# Altium footprint library Xilinx.PcbLib: 3 footprints (part 1 of 3)
Each footprint in its own frame and in the unit in brackets; x right, y up, seen from the top. Pads: shape width x height; smd on the part's side, far side on the other; paste and mask are expansions set on the pad; w line width, h text height; cw(c..) or ccw(c..) is an arc to the next point about the centre after c.
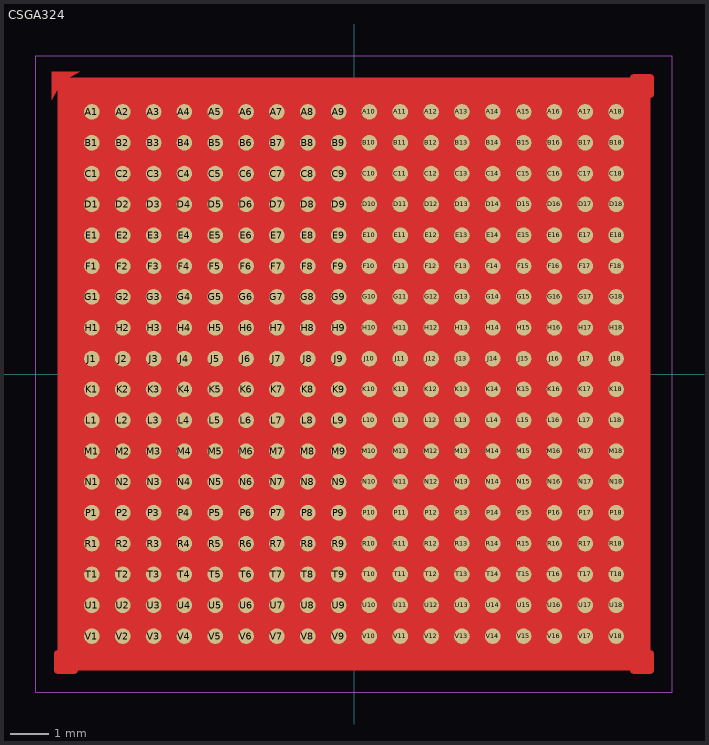
[diagram p0: the footprint, top view; thin cyan lines are the x and y axes]

## CSGA324 [mm]
pads (324):
  round 0.406 smd mask+0.038: A1(-6.8,6.8) A2(-6,6.8) A3(-5.2,6.8) A4(-4.4,6.8) A5(-3.6,6.8) A6(-2.8,6.8) A7(-2,6.8) A8(-1.2,6.8) A9(-0.4,6.8) A10(0.4,6.8) A11(1.2,6.8) A12(2,6.8) A13(2.8,6.8) A14(3.6,6.8) A15(4.4,6.8) A16(5.2,6.8) A17(6,6.8) A18(6.8,6.8) B1(-6.8,6) B2(-6,6) B3(-5.2,6) B4(-4.4,6) B5(-3.6,6) B6(-2.8,6) B7(-2,6) B8(-1.2,6) B9(-0.4,6) B10(0.4,6) B11(1.2,6) B12(2,6) B13(2.8,6) B14(3.6,6) B15(4.4,6) B16(5.2,6) B17(6,6) B18(6.8,6) C1(-6.8,5.2) C2(-6,5.2) C3(-5.2,5.2) C4(-4.4,5.2) C5(-3.6,5.2) C6(-2.8,5.2) C7(-2,5.2) C8(-1.2,5.2) C9(-0.4,5.2) C10(0.4,5.2) C11(1.2,5.2) C12(2,5.2) C13(2.8,5.2) C14(3.6,5.2) C15(4.4,5.2) C16(5.2,5.2) C17(6,5.2) C18(6.8,5.2) D1(-6.8,4.4) D2(-6,4.4) D3(-5.2,4.4) D4(-4.4,4.4) D5(-3.6,4.4) D6(-2.8,4.4) D7(-2,4.4) D8(-1.2,4.4) D9(-0.4,4.4) D10(0.4,4.4) D11(1.2,4.4) D12(2,4.4) D13(2.8,4.4) D14(3.6,4.4) D15(4.4,4.4) D16(5.2,4.4) D17(6,4.4) D18(6.8,4.4) E1(-6.8,3.6) E2(-6,3.6) E3(-5.2,3.6) E4(-4.4,3.6) E5(-3.6,3.6) E6(-2.8,3.6) E7(-2,3.6) E8(-1.2,3.6) E9(-0.4,3.6) E10(0.4,3.6) E11(1.2,3.6) E12(2,3.6) E13(2.8,3.6) E14(3.6,3.6) E15(4.4,3.6) E16(5.2,3.6) E17(6,3.6) E18(6.8,3.6) F1(-6.8,2.8) F2(-6,2.8) F3(-5.2,2.8) F4(-4.4,2.8) F5(-3.6,2.8) F6(-2.8,2.8) F7(-2,2.8) F8(-1.2,2.8) F9(-0.4,2.8) F10(0.4,2.8) F11(1.2,2.8) F12(2,2.8) F13(2.8,2.8) F14(3.6,2.8) F15(4.4,2.8) F16(5.2,2.8) F17(6,2.8) F18(6.8,2.8) G1(-6.8,2) G2(-6,2) G3(-5.2,2) G4(-4.4,2) G5(-3.6,2) G6(-2.8,2) G7(-2,2) G8(-1.2,2) G9(-0.4,2) G10(0.4,2) G11(1.2,2) G12(2,2) G13(2.8,2) G14(3.6,2) G15(4.4,2) G16(5.2,2) G17(6,2) G18(6.8,2) H1(-6.8,1.2) H2(-6,1.2) H3(-5.2,1.2) H4(-4.4,1.2) H5(-3.6,1.2) H6(-2.8,1.2) H7(-2,1.2) H8(-1.2,1.2) H9(-0.4,1.2) H10(0.4,1.2) H11(1.2,1.2) H12(2,1.2) H13(2.8,1.2) H14(3.6,1.2) H15(4.4,1.2) H16(5.2,1.2) H17(6,1.2) H18(6.8,1.2) J1(-6.8,0.4) J2(-6,0.4) J3(-5.2,0.4) J4(-4.4,0.4) J5(-3.6,0.4) J6(-2.8,0.4) J7(-2,0.4) J8(-1.2,0.4) J9(-0.4,0.4) J10(0.4,0.4) J11(1.2,0.4) J12(2,0.4) J13(2.8,0.4) J14(3.6,0.4) J15(4.4,0.4) J16(5.2,0.4) J17(6,0.4) J18(6.8,0.4) K1(-6.8,-0.4) K2(-6,-0.4) K3(-5.2,-0.4) K4(-4.4,-0.4) K5(-3.6,-0.4) K6(-2.8,-0.4) K7(-2,-0.4) K8(-1.2,-0.4) K9(-0.4,-0.4) K10(0.4,-0.4) K11(1.2,-0.4) K12(2,-0.4) K13(2.8,-0.4) K14(3.6,-0.4) K15(4.4,-0.4) K16(5.2,-0.4) K17(6,-0.4) K18(6.8,-0.4) L1(-6.8,-1.2) L2(-6,-1.2) L3(-5.2,-1.2) L4(-4.4,-1.2) L5(-3.6,-1.2) L6(-2.8,-1.2) L7(-2,-1.2) L8(-1.2,-1.2) L9(-0.4,-1.2) L10(0.4,-1.2) L11(1.2,-1.2) L12(2,-1.2) L13(2.8,-1.2) L14(3.6,-1.2) L15(4.4,-1.2) L16(5.2,-1.2) L17(6,-1.2) L18(6.8,-1.2) M1(-6.8,-2) M2(-6,-2) M3(-5.2,-2) M4(-4.4,-2) M5(-3.6,-2) M6(-2.8,-2) M7(-2,-2) M8(-1.2,-2) M9(-0.4,-2) M10(0.4,-2) M11(1.2,-2) M12(2,-2) M13(2.8,-2) M14(3.6,-2) M15(4.4,-2) M16(5.2,-2) M17(6,-2) M18(6.8,-2) N1(-6.8,-2.8) N2(-6,-2.8) N3(-5.2,-2.8) N4(-4.4,-2.8) N5(-3.6,-2.8) N6(-2.8,-2.8) N7(-2,-2.8) N8(-1.2,-2.8) N9(-0.4,-2.8) N10(0.4,-2.8) N11(1.2,-2.8) N12(2,-2.8) N13(2.8,-2.8) N14(3.6,-2.8) N15(4.4,-2.8) N16(5.2,-2.8) N17(6,-2.8) N18(6.8,-2.8) P1(-6.8,-3.6) P2(-6,-3.6) P3(-5.2,-3.6) P4(-4.4,-3.6) P5(-3.6,-3.6) P6(-2.8,-3.6) P7(-2,-3.6) P8(-1.2,-3.6) P9(-0.4,-3.6) P10(0.4,-3.6) P11(1.2,-3.6) P12(2,-3.6) P13(2.8,-3.6) P14(3.6,-3.6) P15(4.4,-3.6) P16(5.2,-3.6) P17(6,-3.6) P18(6.8,-3.6) R1(-6.8,-4.4) R2(-6,-4.4) R3(-5.2,-4.4) R4(-4.4,-4.4) R5(-3.6,-4.4) R6(-2.8,-4.4) R7(-2,-4.4) R8(-1.2,-4.4) R9(-0.4,-4.4) R10(0.4,-4.4) R11(1.2,-4.4) R12(2,-4.4) R13(2.8,-4.4) R14(3.6,-4.4) R15(4.4,-4.4) R16(5.2,-4.4) R17(6,-4.4) R18(6.8,-4.4) T1(-6.8,-5.2) T2(-6,-5.2) T3(-5.2,-5.2) T4(-4.4,-5.2) T5(-3.6,-5.2) T6(-2.8,-5.2) T7(-2,-5.2) T8(-1.2,-5.2) T9(-0.4,-5.2) T10(0.4,-5.2) T11(1.2,-5.2) T12(2,-5.2) T13(2.8,-5.2) T14(3.6,-5.2) T15(4.4,-5.2) T16(5.2,-5.2) T17(6,-5.2) T18(6.8,-5.2) U1(-6.8,-6) U2(-6,-6) U3(-5.2,-6) U4(-4.4,-6) U5(-3.6,-6) U6(-2.8,-6) U7(-2,-6) U8(-1.2,-6) U9(-0.4,-6) U10(0.4,-6) U11(1.2,-6) U12(2,-6) U13(2.8,-6) U14(3.6,-6) U15(4.4,-6) U16(5.2,-6) U17(6,-6) U18(6.8,-6) V1(-6.8,-6.8) V2(-6,-6.8) V3(-5.2,-6.8) V4(-4.4,-6.8) V5(-3.6,-6.8) V6(-2.8,-6.8) V7(-2,-6.8) V8(-1.2,-6.8) V9(-0.4,-6.8) V10(0.4,-6.8) V11(1.2,-6.8) V12(2,-6.8) V13(2.8,-6.8) V14(3.6,-6.8) V15(4.4,-6.8) V16(5.2,-6.8) V17(6,-6.8) V18(6.8,-6.8)
Top Layer:
  region: -7.842,7.842 -7.842,7.117 -7.576,7.576 -7.117,7.842
  pour cut-out: 7.684,-7.684 7.684,7.684 -7.684,7.684 -7.684,-7.684
  region: 7.575,7.27 7.575,7.25 7.59,7.212 7.619,7.184 7.656,7.168 7.676,7.168 7.697,7.168 7.734,7.184 7.763,7.212 7.778,7.25 7.778,7.27 7.778,7.676 7.778,7.697 7.763,7.734 7.734,7.763 7.697,7.778 7.676,7.778 7.27,7.778 7.25,7.778 7.212,7.763 7.184,7.734 7.168,7.697 7.168,7.676 7.168,7.656 7.184,7.619 7.212,7.59 7.25,7.575 7.27,7.575 7.524,7.575 7.534,7.574 7.552,7.566 7.566,7.552 7.574,7.534 7.575,7.524
  region: 7.27,-7.575 7.25,-7.575 7.212,-7.59 7.184,-7.619 7.168,-7.656 7.168,-7.676 7.168,-7.697 7.184,-7.734 7.212,-7.763 7.25,-7.778 7.27,-7.778 7.676,-7.778 7.697,-7.778 7.734,-7.763 7.763,-7.734 7.778,-7.697 7.778,-7.676 7.778,-7.27 7.778,-7.25 7.763,-7.212 7.734,-7.184 7.697,-7.168 7.676,-7.168 7.656,-7.168 7.619,-7.184 7.59,-7.212 7.575,-7.25 7.575,-7.27 7.575,-7.524 7.574,-7.534 7.566,-7.552 7.552,-7.566 7.534,-7.574 7.524,-7.575
  region: -7.575,-7.27 -7.575,-7.25 -7.59,-7.212 -7.619,-7.184 -7.656,-7.168 -7.676,-7.168 -7.697,-7.168 -7.734,-7.184 -7.763,-7.212 -7.778,-7.25 -7.778,-7.27 -7.778,-7.676 -7.778,-7.697 -7.763,-7.734 -7.734,-7.763 -7.697,-7.778 -7.676,-7.778 -7.27,-7.778 -7.25,-7.778 -7.212,-7.763 -7.184,-7.734 -7.168,-7.697 -7.168,-7.676 -7.168,-7.656 -7.184,-7.619 -7.212,-7.59 -7.25,-7.575 -7.27,-7.575 -7.524,-7.575 -7.534,-7.574 -7.552,-7.566 -7.566,-7.552 -7.574,-7.534 -7.575,-7.524
Top Courtyard:
  lines w0.025: -8.255,-8.255 -8.255,8.255 8.255,8.255 8.255,-8.255 -8.255,-8.255
Top Component Outline:
  lines w0.025: -7.5,-7.5 7.5,-7.5 7.5,7.5 -7.5,7.5 -7.5,-7.5
3D body: height 1.36, standoff 0.35, extent -7.5,-7.5 7.5,7.5
3D body: height 0.43, standoff -0.07, extent -7.049,-5.447 -6.551,-4.95
3D body: height 0.43, standoff -0.07, extent -6.249,-5.447 -5.751,-4.95
3D body: height 0.43, standoff -0.07, extent -5.449,-5.447 -4.951,-4.95
3D body: height 0.43, standoff -0.07, extent -5.449,-6.247 -4.951,-5.75
3D body: height 0.43, standoff -0.07, extent -6.249,-6.247 -5.751,-5.75
3D body: height 0.43, standoff -0.07, extent -7.049,-6.247 -6.551,-5.75
3D body: height 0.43, standoff -0.07, extent -7.049,-7.047 -6.551,-6.55
3D body: height 0.43, standoff -0.07, extent -6.249,-7.047 -5.751,-6.55
3D body: height 0.43, standoff -0.07, extent -5.449,-7.047 -4.951,-6.55
3D body: height 0.43, standoff -0.07, extent -3.049,-7.047 -2.551,-6.55
3D body: height 0.43, standoff -0.07, extent -3.849,-7.047 -3.351,-6.55
3D body: height 0.43, standoff -0.07, extent -4.649,-7.047 -4.151,-6.55
3D body: height 0.43, standoff -0.07, extent -4.649,-6.247 -4.151,-5.75
3D body: height 0.43, standoff -0.07, extent -3.849,-6.247 -3.351,-5.75
3D body: height 0.43, standoff -0.07, extent -3.049,-6.247 -2.551,-5.75
3D body: height 0.43, standoff -0.07, extent -3.049,-5.447 -2.551,-4.95
3D body: height 0.43, standoff -0.07, extent -3.849,-5.447 -3.351,-4.95
3D body: height 0.43, standoff -0.07, extent -4.649,-5.447 -4.151,-4.95
3D body: height 0.43, standoff -0.07, extent -0.649,-7.047 -0.151,-6.55
3D body: height 0.43, standoff -0.07, extent -1.449,-7.047 -0.951,-6.55
3D body: height 0.43, standoff -0.07, extent -2.249,-7.047 -1.751,-6.55
3D body: height 0.43, standoff -0.07, extent -2.249,-6.247 -1.751,-5.75
3D body: height 0.43, standoff -0.07, extent -1.449,-6.247 -0.951,-5.75
3D body: height 0.43, standoff -0.07, extent -0.649,-6.247 -0.151,-5.75
3D body: height 0.43, standoff -0.07, extent -0.649,-5.447 -0.151,-4.95
3D body: height 0.43, standoff -0.07, extent -1.449,-5.447 -0.951,-4.95
3D body: height 0.43, standoff -0.07, extent -2.249,-5.447 -1.751,-4.95
3D body: height 0.43, standoff -0.07, extent 1.751,-7.047 2.249,-6.55
3D body: height 0.43, standoff -0.07, extent 0.951,-7.047 1.449,-6.55
3D body: height 0.43, standoff -0.07, extent 0.151,-7.047 0.649,-6.55
3D body: height 0.43, standoff -0.07, extent 0.151,-6.247 0.649,-5.75
3D body: height 0.43, standoff -0.07, extent 0.951,-6.247 1.449,-5.75
3D body: height 0.43, standoff -0.07, extent 1.751,-6.247 2.249,-5.75
3D body: height 0.43, standoff -0.07, extent 1.751,-5.447 2.249,-4.95
3D body: height 0.43, standoff -0.07, extent 0.951,-5.447 1.449,-4.95
3D body: height 0.43, standoff -0.07, extent 0.151,-5.447 0.649,-4.95
3D body: height 0.43, standoff -0.07, extent 4.151,-7.047 4.649,-6.55
3D body: height 0.43, standoff -0.07, extent 3.351,-7.047 3.849,-6.55
3D body: height 0.43, standoff -0.07, extent 2.551,-7.047 3.049,-6.55
3D body: height 0.43, standoff -0.07, extent 2.551,-6.247 3.049,-5.75
3D body: height 0.43, standoff -0.07, extent 3.351,-6.247 3.849,-5.75
3D body: height 0.43, standoff -0.07, extent 4.151,-6.247 4.649,-5.75
3D body: height 0.43, standoff -0.07, extent 4.151,-5.447 4.649,-4.95
3D body: height 0.43, standoff -0.07, extent 3.351,-5.447 3.849,-4.95
3D body: height 0.43, standoff -0.07, extent 2.551,-5.447 3.049,-4.95
3D body: height 0.43, standoff -0.07, extent 6.551,-7.047 7.049,-6.55
3D body: height 0.43, standoff -0.07, extent 5.751,-7.047 6.249,-6.55
3D body: height 0.43, standoff -0.07, extent 4.951,-7.047 5.449,-6.55
3D body: height 0.43, standoff -0.07, extent 4.951,-6.247 5.449,-5.75
3D body: height 0.43, standoff -0.07, extent 5.751,-6.247 6.249,-5.75
3D body: height 0.43, standoff -0.07, extent 6.551,-6.247 7.049,-5.75
3D body: height 0.43, standoff -0.07, extent 6.551,-5.447 7.049,-4.95
3D body: height 0.43, standoff -0.07, extent 5.751,-5.447 6.249,-4.95
3D body: height 0.43, standoff -0.07, extent 4.951,-5.447 5.449,-4.95
3D body: height 0.43, standoff -0.07, extent -7.049,-3.047 -6.551,-2.55
3D body: height 0.43, standoff -0.07, extent -6.249,-3.047 -5.751,-2.55
3D body: height 0.43, standoff -0.07, extent -5.449,-3.047 -4.951,-2.55
3D body: height 0.43, standoff -0.07, extent -5.449,-3.847 -4.951,-3.35
3D body: height 0.43, standoff -0.07, extent -6.249,-3.847 -5.751,-3.35
3D body: height 0.43, standoff -0.07, extent -7.049,-3.847 -6.551,-3.35
3D body: height 0.43, standoff -0.07, extent -7.049,-4.647 -6.551,-4.15
3D body: height 0.43, standoff -0.07, extent -6.249,-4.647 -5.751,-4.15
3D body: height 0.43, standoff -0.07, extent -5.449,-4.647 -4.951,-4.15
3D body: height 0.43, standoff -0.07, extent -3.049,-4.647 -2.551,-4.15
3D body: height 0.43, standoff -0.07, extent -3.849,-4.647 -3.351,-4.15
3D body: height 0.43, standoff -0.07, extent -4.649,-4.647 -4.151,-4.15
3D body: height 0.43, standoff -0.07, extent -4.649,-3.847 -4.151,-3.35
3D body: height 0.43, standoff -0.07, extent -3.849,-3.847 -3.351,-3.35
3D body: height 0.43, standoff -0.07, extent -3.049,-3.847 -2.551,-3.35
3D body: height 0.43, standoff -0.07, extent -3.049,-3.047 -2.551,-2.55
3D body: height 0.43, standoff -0.07, extent -3.849,-3.047 -3.351,-2.55
3D body: height 0.43, standoff -0.07, extent -4.649,-3.047 -4.151,-2.55
3D body: height 0.43, standoff -0.07, extent -0.649,-4.647 -0.151,-4.15
3D body: height 0.43, standoff -0.07, extent -1.449,-4.647 -0.951,-4.15
3D body: height 0.43, standoff -0.07, extent -2.249,-4.647 -1.751,-4.15
3D body: height 0.43, standoff -0.07, extent -2.249,-3.847 -1.751,-3.35
3D body: height 0.43, standoff -0.07, extent -1.449,-3.847 -0.951,-3.35
3D body: height 0.43, standoff -0.07, extent -0.649,-3.847 -0.151,-3.35
3D body: height 0.43, standoff -0.07, extent -0.649,-3.047 -0.151,-2.55
3D body: height 0.43, standoff -0.07, extent -1.449,-3.047 -0.951,-2.55
3D body: height 0.43, standoff -0.07, extent -2.249,-3.047 -1.751,-2.55
3D body: height 0.43, standoff -0.07, extent 1.751,-4.647 2.249,-4.15
3D body: height 0.43, standoff -0.07, extent 0.951,-4.647 1.449,-4.15
3D body: height 0.43, standoff -0.07, extent 0.151,-4.647 0.649,-4.15
3D body: height 0.43, standoff -0.07, extent 0.151,-3.847 0.649,-3.35
3D body: height 0.43, standoff -0.07, extent 0.951,-3.847 1.449,-3.35
3D body: height 0.43, standoff -0.07, extent 1.751,-3.847 2.249,-3.35
3D body: height 0.43, standoff -0.07, extent 1.751,-3.047 2.249,-2.55
3D body: height 0.43, standoff -0.07, extent 0.951,-3.047 1.449,-2.55
3D body: height 0.43, standoff -0.07, extent 0.151,-3.047 0.649,-2.55
3D body: height 0.43, standoff -0.07, extent 4.151,-4.647 4.649,-4.15
3D body: height 0.43, standoff -0.07, extent 3.351,-4.647 3.849,-4.15
3D body: height 0.43, standoff -0.07, extent 2.551,-4.647 3.049,-4.15
3D body: height 0.43, standoff -0.07, extent 2.551,-3.847 3.049,-3.35
3D body: height 0.43, standoff -0.07, extent 3.351,-3.847 3.849,-3.35
3D body: height 0.43, standoff -0.07, extent 4.151,-3.847 4.649,-3.35
3D body: height 0.43, standoff -0.07, extent 4.151,-3.047 4.649,-2.55
3D body: height 0.43, standoff -0.07, extent 3.351,-3.047 3.849,-2.55
3D body: height 0.43, standoff -0.07, extent 2.551,-3.047 3.049,-2.55
3D body: height 0.43, standoff -0.07, extent 6.551,-4.647 7.049,-4.15
3D body: height 0.43, standoff -0.07, extent 5.751,-4.647 6.249,-4.15
3D body: height 0.43, standoff -0.07, extent 4.951,-4.647 5.449,-4.15
3D body: height 0.43, standoff -0.07, extent 4.951,-3.847 5.449,-3.35
3D body: height 0.43, standoff -0.07, extent 5.751,-3.847 6.249,-3.35
3D body: height 0.43, standoff -0.07, extent 6.551,-3.847 7.049,-3.35
3D body: height 0.43, standoff -0.07, extent 6.551,-3.047 7.049,-2.55
3D body: height 0.43, standoff -0.07, extent 5.751,-3.047 6.249,-2.55
3D body: height 0.43, standoff -0.07, extent 4.951,-3.047 5.449,-2.55
3D body: height 0.43, standoff -0.07, extent -7.049,-0.647 -6.551,-0.15
3D body: height 0.43, standoff -0.07, extent -6.249,-0.647 -5.751,-0.15
3D body: height 0.43, standoff -0.07, extent -5.449,-0.647 -4.951,-0.15
3D body: height 0.43, standoff -0.07, extent -5.449,-1.447 -4.951,-0.95
3D body: height 0.43, standoff -0.07, extent -6.249,-1.447 -5.751,-0.95
3D body: height 0.43, standoff -0.07, extent -7.049,-1.447 -6.551,-0.95
3D body: height 0.43, standoff -0.07, extent -7.049,-2.247 -6.551,-1.75
3D body: height 0.43, standoff -0.07, extent -6.249,-2.247 -5.751,-1.75
3D body: height 0.43, standoff -0.07, extent -5.449,-2.247 -4.951,-1.75
3D body: height 0.43, standoff -0.07, extent -3.049,-2.247 -2.551,-1.75
3D body: height 0.43, standoff -0.07, extent -3.849,-2.247 -3.351,-1.75
3D body: height 0.43, standoff -0.07, extent -4.649,-2.247 -4.151,-1.75
3D body: height 0.43, standoff -0.07, extent -4.649,-1.447 -4.151,-0.95
3D body: height 0.43, standoff -0.07, extent -3.849,-1.447 -3.351,-0.95
3D body: height 0.43, standoff -0.07, extent -3.049,-1.447 -2.551,-0.95
3D body: height 0.43, standoff -0.07, extent -3.049,-0.647 -2.551,-0.15
3D body: height 0.43, standoff -0.07, extent -3.849,-0.647 -3.351,-0.15
3D body: height 0.43, standoff -0.07, extent -4.649,-0.647 -4.151,-0.15
3D body: height 0.43, standoff -0.07, extent -0.649,-2.247 -0.151,-1.75
3D body: height 0.43, standoff -0.07, extent -1.449,-2.247 -0.951,-1.75
3D body: height 0.43, standoff -0.07, extent -2.249,-2.247 -1.751,-1.75
3D body: height 0.43, standoff -0.07, extent -2.249,-1.447 -1.751,-0.95
3D body: height 0.43, standoff -0.07, extent -1.449,-1.447 -0.951,-0.95
3D body: height 0.43, standoff -0.07, extent -0.649,-1.447 -0.151,-0.95
3D body: height 0.43, standoff -0.07, extent -0.649,-0.647 -0.151,-0.15
3D body: height 0.43, standoff -0.07, extent -1.449,-0.647 -0.951,-0.15
3D body: height 0.43, standoff -0.07, extent -2.249,-0.647 -1.751,-0.15
3D body: height 0.43, standoff -0.07, extent 1.751,-2.247 2.249,-1.75
3D body: height 0.43, standoff -0.07, extent 0.951,-2.247 1.449,-1.75
3D body: height 0.43, standoff -0.07, extent 0.151,-2.247 0.649,-1.75
3D body: height 0.43, standoff -0.07, extent 0.151,-1.447 0.649,-0.95
3D body: height 0.43, standoff -0.07, extent 0.951,-1.447 1.449,-0.95
3D body: height 0.43, standoff -0.07, extent 1.751,-1.447 2.249,-0.95
3D body: height 0.43, standoff -0.07, extent 1.751,-0.647 2.249,-0.15
3D body: height 0.43, standoff -0.07, extent 0.951,-0.647 1.449,-0.15
3D body: height 0.43, standoff -0.07, extent 0.151,-0.647 0.649,-0.15
3D body: height 0.43, standoff -0.07, extent 4.151,-2.247 4.649,-1.75
3D body: height 0.43, standoff -0.07, extent 3.351,-2.247 3.849,-1.75
3D body: height 0.43, standoff -0.07, extent 2.551,-2.247 3.049,-1.75
3D body: height 0.43, standoff -0.07, extent 2.551,-1.447 3.049,-0.95
3D body: height 0.43, standoff -0.07, extent 3.351,-1.447 3.849,-0.95
3D body: height 0.43, standoff -0.07, extent 4.151,-1.447 4.649,-0.95
3D body: height 0.43, standoff -0.07, extent 4.151,-0.647 4.649,-0.15
3D body: height 0.43, standoff -0.07, extent 3.351,-0.647 3.849,-0.15
3D body: height 0.43, standoff -0.07, extent 2.551,-0.647 3.049,-0.15
3D body: height 0.43, standoff -0.07, extent 6.551,-2.247 7.049,-1.75
3D body: height 0.43, standoff -0.07, extent 5.751,-2.247 6.249,-1.75
3D body: height 0.43, standoff -0.07, extent 4.951,-2.247 5.449,-1.75
3D body: height 0.43, standoff -0.07, extent 4.951,-1.447 5.449,-0.95
3D body: height 0.43, standoff -0.07, extent 5.751,-1.447 6.249,-0.95
3D body: height 0.43, standoff -0.07, extent 6.551,-1.447 7.049,-0.95
3D body: height 0.43, standoff -0.07, extent 6.551,-0.647 7.049,-0.15
3D body: height 0.43, standoff -0.07, extent 5.751,-0.647 6.249,-0.15
3D body: height 0.43, standoff -0.07, extent 4.951,-0.647 5.449,-0.15
3D body: height 0.43, standoff -0.07, extent -7.049,1.753 -6.551,2.25
3D body: height 0.43, standoff -0.07, extent -6.249,1.753 -5.751,2.25
3D body: height 0.43, standoff -0.07, extent -5.449,1.753 -4.951,2.25
3D body: height 0.43, standoff -0.07, extent -5.449,0.953 -4.951,1.45
3D body: height 0.43, standoff -0.07, extent -6.249,0.953 -5.751,1.45
3D body: height 0.43, standoff -0.07, extent -7.049,0.953 -6.551,1.45
3D body: height 0.43, standoff -0.07, extent -7.049,0.153 -6.551,0.65
3D body: height 0.43, standoff -0.07, extent -6.249,0.153 -5.751,0.65
3D body: height 0.43, standoff -0.07, extent -5.449,0.153 -4.951,0.65
3D body: height 0.43, standoff -0.07, extent -3.049,0.153 -2.551,0.65
3D body: height 0.43, standoff -0.07, extent -3.849,0.153 -3.351,0.65
3D body: height 0.43, standoff -0.07, extent -4.649,0.153 -4.151,0.65
3D body: height 0.43, standoff -0.07, extent -4.649,0.953 -4.151,1.45
3D body: height 0.43, standoff -0.07, extent -3.849,0.953 -3.351,1.45
3D body: height 0.43, standoff -0.07, extent -3.049,0.953 -2.551,1.45
3D body: height 0.43, standoff -0.07, extent -3.049,1.753 -2.551,2.25
3D body: height 0.43, standoff -0.07, extent -3.849,1.753 -3.351,2.25
3D body: height 0.43, standoff -0.07, extent -4.649,1.753 -4.151,2.25
3D body: height 0.43, standoff -0.07, extent -0.649,0.153 -0.151,0.65
3D body: height 0.43, standoff -0.07, extent -1.449,0.153 -0.951,0.65
3D body: height 0.43, standoff -0.07, extent -2.249,0.153 -1.751,0.65
3D body: height 0.43, standoff -0.07, extent -2.249,0.953 -1.751,1.45
3D body: height 0.43, standoff -0.07, extent -1.449,0.953 -0.951,1.45
3D body: height 0.43, standoff -0.07, extent -0.649,0.953 -0.151,1.45
3D body: height 0.43, standoff -0.07, extent -0.649,1.753 -0.151,2.25
3D body: height 0.43, standoff -0.07, extent -1.449,1.753 -0.951,2.25
3D body: height 0.43, standoff -0.07, extent -2.249,1.753 -1.751,2.25
3D body: height 0.43, standoff -0.07, extent 1.751,0.153 2.249,0.65
3D body: height 0.43, standoff -0.07, extent 0.951,0.153 1.449,0.65
3D body: height 0.43, standoff -0.07, extent 0.151,0.153 0.649,0.65
3D body: height 0.43, standoff -0.07, extent 0.151,0.953 0.649,1.45
3D body: height 0.43, standoff -0.07, extent 0.951,0.953 1.449,1.45
3D body: height 0.43, standoff -0.07, extent 1.751,0.953 2.249,1.45
3D body: height 0.43, standoff -0.07, extent 1.751,1.753 2.249,2.25
3D body: height 0.43, standoff -0.07, extent 0.951,1.753 1.449,2.25
3D body: height 0.43, standoff -0.07, extent 0.151,1.753 0.649,2.25
3D body: height 0.43, standoff -0.07, extent 4.151,0.153 4.649,0.65
3D body: height 0.43, standoff -0.07, extent 3.351,0.153 3.849,0.65
3D body: height 0.43, standoff -0.07, extent 2.551,0.153 3.049,0.65
3D body: height 0.43, standoff -0.07, extent 2.551,0.953 3.049,1.45
3D body: height 0.43, standoff -0.07, extent 3.351,0.953 3.849,1.45
3D body: height 0.43, standoff -0.07, extent 4.151,0.953 4.649,1.45
3D body: height 0.43, standoff -0.07, extent 4.151,1.753 4.649,2.25
3D body: height 0.43, standoff -0.07, extent 3.351,1.753 3.849,2.25
3D body: height 0.43, standoff -0.07, extent 2.551,1.753 3.049,2.25
3D body: height 0.43, standoff -0.07, extent 6.551,0.153 7.049,0.65
3D body: height 0.43, standoff -0.07, extent 5.751,0.153 6.249,0.65
3D body: height 0.43, standoff -0.07, extent 4.951,0.153 5.449,0.65
3D body: height 0.43, standoff -0.07, extent 4.951,0.953 5.449,1.45
3D body: height 0.43, standoff -0.07, extent 5.751,0.953 6.249,1.45
3D body: height 0.43, standoff -0.07, extent 6.551,0.953 7.049,1.45
3D body: height 0.43, standoff -0.07, extent 6.551,1.753 7.049,2.25
3D body: height 0.43, standoff -0.07, extent 5.751,1.753 6.249,2.25
3D body: height 0.43, standoff -0.07, extent 4.951,1.753 5.449,2.25
3D body: height 0.43, standoff -0.07, extent -7.049,4.153 -6.551,4.65
3D body: height 0.43, standoff -0.07, extent -6.249,4.153 -5.751,4.65
3D body: height 0.43, standoff -0.07, extent -5.449,4.153 -4.951,4.65
3D body: height 0.43, standoff -0.07, extent -5.449,3.353 -4.951,3.85
3D body: height 0.43, standoff -0.07, extent -6.249,3.353 -5.751,3.85
3D body: height 0.43, standoff -0.07, extent -7.049,3.353 -6.551,3.85
3D body: height 0.43, standoff -0.07, extent -7.049,2.553 -6.551,3.05
3D body: height 0.43, standoff -0.07, extent -6.249,2.553 -5.751,3.05
3D body: height 0.43, standoff -0.07, extent -5.449,2.553 -4.951,3.05
3D body: height 0.43, standoff -0.07, extent -3.049,2.553 -2.551,3.05
3D body: height 0.43, standoff -0.07, extent -3.849,2.553 -3.351,3.05
3D body: height 0.43, standoff -0.07, extent -4.649,2.553 -4.151,3.05
3D body: height 0.43, standoff -0.07, extent -4.649,3.353 -4.151,3.85
3D body: height 0.43, standoff -0.07, extent -3.849,3.353 -3.351,3.85
3D body: height 0.43, standoff -0.07, extent -3.049,3.353 -2.551,3.85
3D body: height 0.43, standoff -0.07, extent -3.049,4.153 -2.551,4.65
3D body: height 0.43, standoff -0.07, extent -3.849,4.153 -3.351,4.65
3D body: height 0.43, standoff -0.07, extent -4.649,4.153 -4.151,4.65
3D body: height 0.43, standoff -0.07, extent -0.649,2.553 -0.151,3.05
3D body: height 0.43, standoff -0.07, extent -1.449,2.553 -0.951,3.05
3D body: height 0.43, standoff -0.07, extent -2.249,2.553 -1.751,3.05
3D body: height 0.43, standoff -0.07, extent -2.249,3.353 -1.751,3.85
3D body: height 0.43, standoff -0.07, extent -1.449,3.353 -0.951,3.85
3D body: height 0.43, standoff -0.07, extent -0.649,3.353 -0.151,3.85
3D body: height 0.43, standoff -0.07, extent -0.649,4.153 -0.151,4.65
3D body: height 0.43, standoff -0.07, extent -1.449,4.153 -0.951,4.65
3D body: height 0.43, standoff -0.07, extent -2.249,4.153 -1.751,4.65
3D body: height 0.43, standoff -0.07, extent 1.751,2.553 2.249,3.05
3D body: height 0.43, standoff -0.07, extent 0.951,2.553 1.449,3.05
3D body: height 0.43, standoff -0.07, extent 0.151,2.553 0.649,3.05
3D body: height 0.43, standoff -0.07, extent 0.151,3.353 0.649,3.85
3D body: height 0.43, standoff -0.07, extent 0.951,3.353 1.449,3.85
3D body: height 0.43, standoff -0.07, extent 1.751,3.353 2.249,3.85
3D body: height 0.43, standoff -0.07, extent 1.751,4.153 2.249,4.65
3D body: height 0.43, standoff -0.07, extent 0.951,4.153 1.449,4.65
3D body: height 0.43, standoff -0.07, extent 0.151,4.153 0.649,4.65
3D body: height 0.43, standoff -0.07, extent 4.151,2.553 4.649,3.05
3D body: height 0.43, standoff -0.07, extent 3.351,2.553 3.849,3.05
3D body: height 0.43, standoff -0.07, extent 2.551,2.553 3.049,3.05
3D body: height 0.43, standoff -0.07, extent 2.551,3.353 3.049,3.85
3D body: height 0.43, standoff -0.07, extent 3.351,3.353 3.849,3.85
3D body: height 0.43, standoff -0.07, extent 4.151,3.353 4.649,3.85
3D body: height 0.43, standoff -0.07, extent 4.151,4.153 4.649,4.65
3D body: height 0.43, standoff -0.07, extent 3.351,4.153 3.849,4.65
3D body: height 0.43, standoff -0.07, extent 2.551,4.153 3.049,4.65
3D body: height 0.43, standoff -0.07, extent 6.551,2.553 7.049,3.05
3D body: height 0.43, standoff -0.07, extent 5.751,2.553 6.249,3.05
3D body: height 0.43, standoff -0.07, extent 4.951,2.553 5.449,3.05
3D body: height 0.43, standoff -0.07, extent 4.951,3.353 5.449,3.85
3D body: height 0.43, standoff -0.07, extent 5.751,3.353 6.249,3.85
3D body: height 0.43, standoff -0.07, extent 6.551,3.353 7.049,3.85
3D body: height 0.43, standoff -0.07, extent 6.551,4.153 7.049,4.65
3D body: height 0.43, standoff -0.07, extent 5.751,4.153 6.249,4.65
3D body: height 0.43, standoff -0.07, extent 4.951,4.153 5.449,4.65
3D body: height 0.43, standoff -0.07, extent 4.951,6.553 5.449,7.05
3D body: height 0.43, standoff -0.07, extent 5.751,6.553 6.249,7.05
3D body: height 0.43, standoff -0.07, extent 6.551,6.553 7.049,7.05
3D body: height 0.43, standoff -0.07, extent 6.551,5.753 7.049,6.25
3D body: height 0.43, standoff -0.07, extent 5.751,5.753 6.249,6.25
3D body: height 0.43, standoff -0.07, extent 4.951,5.753 5.449,6.25
3D body: height 0.43, standoff -0.07, extent 4.951,4.953 5.449,5.45
3D body: height 0.43, standoff -0.07, extent 5.751,4.953 6.249,5.45
3D body: height 0.43, standoff -0.07, extent 6.551,4.953 7.049,5.45
3D body: height 0.43, standoff -0.07, extent 2.551,6.553 3.049,7.05
3D body: height 0.43, standoff -0.07, extent 3.351,6.553 3.849,7.05
3D body: height 0.43, standoff -0.07, extent 4.151,6.553 4.649,7.05
3D body: height 0.43, standoff -0.07, extent 4.151,5.753 4.649,6.25
3D body: height 0.43, standoff -0.07, extent 3.351,5.753 3.849,6.25
3D body: height 0.43, standoff -0.07, extent 2.551,5.753 3.049,6.25
3D body: height 0.43, standoff -0.07, extent 2.551,4.953 3.049,5.45
3D body: height 0.43, standoff -0.07, extent 3.351,4.953 3.849,5.45
3D body: height 0.43, standoff -0.07, extent 4.151,4.953 4.649,5.45
3D body: height 0.43, standoff -0.07, extent 0.151,6.553 0.649,7.05
3D body: height 0.43, standoff -0.07, extent 0.951,6.553 1.449,7.05
3D body: height 0.43, standoff -0.07, extent 1.751,6.553 2.249,7.05
3D body: height 0.43, standoff -0.07, extent 1.751,5.753 2.249,6.25
3D body: height 0.43, standoff -0.07, extent 0.951,5.753 1.449,6.25
3D body: height 0.43, standoff -0.07, extent 0.151,5.753 0.649,6.25
3D body: height 0.43, standoff -0.07, extent 0.151,4.953 0.649,5.45
3D body: height 0.43, standoff -0.07, extent 0.951,4.953 1.449,5.45
3D body: height 0.43, standoff -0.07, extent 1.751,4.953 2.249,5.45
3D body: height 0.43, standoff -0.07, extent -2.249,6.553 -1.751,7.05
3D body: height 0.43, standoff -0.07, extent -1.449,6.553 -0.951,7.05
3D body: height 0.43, standoff -0.07, extent -0.649,6.553 -0.151,7.05
3D body: height 0.43, standoff -0.07, extent -0.649,5.753 -0.151,6.25
3D body: height 0.43, standoff -0.07, extent -1.449,5.753 -0.951,6.25
3D body: height 0.43, standoff -0.07, extent -2.249,5.753 -1.751,6.25
3D body: height 0.43, standoff -0.07, extent -2.249,4.953 -1.751,5.45
3D body: height 0.43, standoff -0.07, extent -1.449,4.953 -0.951,5.45
3D body: height 0.43, standoff -0.07, extent -0.649,4.953 -0.151,5.45
3D body: height 0.43, standoff -0.07, extent -4.649,6.553 -4.151,7.05
3D body: height 0.43, standoff -0.07, extent -3.849,6.553 -3.351,7.05
3D body: height 0.43, standoff -0.07, extent -3.049,6.553 -2.551,7.05
3D body: height 0.43, standoff -0.07, extent -3.049,5.753 -2.551,6.25
3D body: height 0.43, standoff -0.07, extent -3.849,5.753 -3.351,6.25
3D body: height 0.43, standoff -0.07, extent -4.649,5.753 -4.151,6.25
3D body: height 0.43, standoff -0.07, extent -4.649,4.953 -4.151,5.45
3D body: height 0.43, standoff -0.07, extent -3.849,4.953 -3.351,5.45
3D body: height 0.43, standoff -0.07, extent -3.049,4.953 -2.551,5.45
3D body: height 0.43, standoff -0.07, extent -5.449,4.953 -4.951,5.45
3D body: height 0.43, standoff -0.07, extent -6.249,4.953 -5.751,5.45
3D body: height 0.43, standoff -0.07, extent -7.049,4.953 -6.551,5.45
3D body: height 0.43, standoff -0.07, extent -7.049,5.753 -6.551,6.25
3D body: height 0.43, standoff -0.07, extent -6.249,5.753 -5.751,6.25
3D body: height 0.43, standoff -0.07, extent -5.449,5.753 -4.951,6.25
3D body: height 0.43, standoff -0.07, extent -5.449,6.553 -4.951,7.05
3D body: height 0.43, standoff -0.07, extent -6.249,6.553 -5.751,7.05
3D body: height 0.43, standoff -0.07, extent -7.049,6.553 -6.551,7.05